# EAGLE library part TPS2393 (library ic)
TPS2393: -48V hot swap controller (Texas Instruments) -20...-80V input
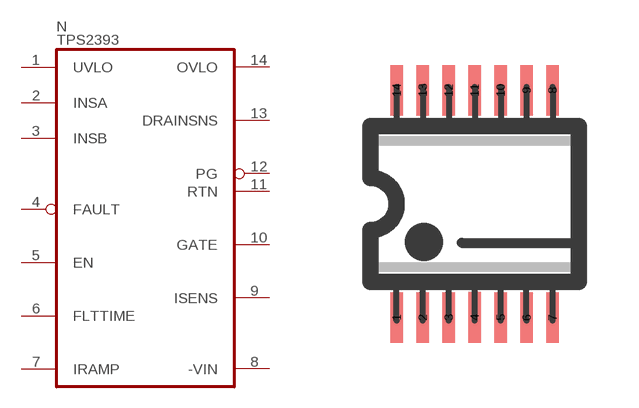
[diagram p124: symbol with the pads of TSSOP14; footprint TSSOP14]

Designator prefix N

## TPS2393  [TSSOP14]
1  UVLO  in
2  INSA  in
3  INSB  in
4  FAULT  out
5  EN  in
6  FLTTIME  in
7  IRAMP  in
8  -VIN  pwr
9  ISENS  in
10  GATE  in
11  RTN  in
12  PG  out
13  DRAINSNS  in
14  OVLO  in

## Footprint TSSOP14 (pad centres in mm)
TSSOP14, SMD TSSOP IC package (0.65mm pitch), 14 pins
smd 0.305 x 1.27: 1 -1.95,-2.844; 2 -1.3,-2.844; 3 -0.65,-2.844; 4 0,-2.844; 5 0.65,-2.844; 6 1.3,-2.844; 7 1.95,-2.844; 8 1.95,2.844; 9 1.3,2.844; 10 0.65,2.844; 11 0,2.844; 12 -0.65,2.844; 13 -1.3,2.844; 14 -1.95,2.844